# EAGLE library part 61303025721 (library Eagle_BOARD-TO-BOARD_CONNECTORS (rev18b))
WR-PHD 2.54mm Dual Socket Header Bottom Entry, 30 Pins =>Code : Con_BTB_SHD_2.54_2_61303025721 <http://katalog.we-online.de/media/images/eican/Con_BTB_SHD_2.54_2_6130xx25721_pf2.jpg> Details see: http://katalog.we-online.de/en/em/613_0xx_257_21 Created 2014-05-30, Karrer Zheng 2014 (C) Würth Elektronik
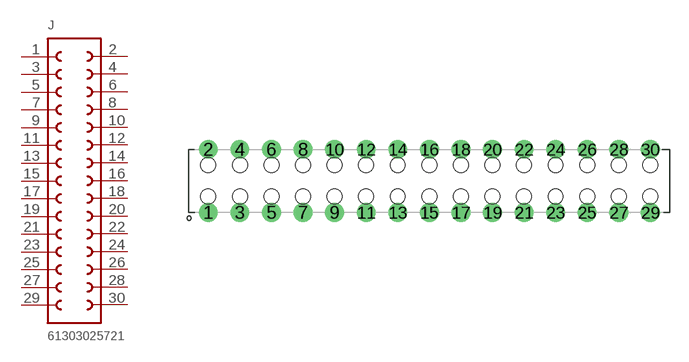
[diagram p160: symbol with the pads of 61303025721; footprint 61303025721]

Designator prefix J

## 61303025721  [61303025721]
1  1  pas
2  30  pas
3  2  pas
4  29  pas
5  3  pas
6  28  pas
7  4  pas
8  27  pas
9  5  pas
10  26  pas
11  6  pas
12  25  pas
13  7  pas
14  24  pas
15  8  pas
16  23  pas
17  9  pas
18  22  pas
19  10  pas
20  21  pas
21  11  pas
22  20  pas
23  12  pas
24  19  pas
25  13  pas
26  18  pas
27  14  pas
28  17  pas
29  15  pas
30  16  pas

## Footprint 61303025721 (pad centres in mm)
WR-PHD 2.54mm Dual Socket Header Bottom Entry, 30 Pins
drill 1 pad 1.4: 1 -17.78,-2.54; 2 -17.78,2.54; 3 -15.24,-2.54; 4 -15.24,2.54; 5 -12.7,-2.54; 6 -12.7,2.54; 7 -10.16,-2.54; 8 -10.16,2.54; 9 -7.62,-2.54; 10 -7.62,2.54; 11 -5.08,-2.54; 12 -5.08,2.54; 13 -2.54,-2.54; 14 -2.54,2.54; 15 0,-2.54; 16 0,2.54; 17 2.54,-2.54; 18 2.54,2.54; 19 5.08,-2.54; 20 5.08,2.54; 21 7.62,-2.54; 22 7.62,2.54; 23 10.16,-2.54; 24 10.16,2.54; 25 12.7,-2.54; 26 12.7,2.54; 27 15.24,-2.54; 28 15.24,2.54; 29 17.78,-2.54; 30 17.78,2.54
hole 1.2 at -17.78,1.27
hole 1.2 at -15.24,1.27
hole 1.2 at -15.24,-1.27
hole 1.2 at -17.78,-1.27
hole 1.2 at -12.7,-1.27
hole 1.2 at -12.7,1.27
hole 1.2 at -10.16,1.27
hole 1.2 at -10.16,-1.27
hole 1.2 at -7.62,1.27
hole 1.2 at -7.62,-1.27
hole 1.2 at -5.08,-1.27
hole 1.2 at -5.08,1.27
hole 1.2 at -2.54,1.27
hole 1.2 at -2.54,-1.27
hole 1.2 at 0,-1.27
hole 1.2 at 0,1.27
hole 1.2 at 2.54,-1.27
hole 1.2 at 2.54,1.27
hole 1.2 at 5.08,1.27
hole 1.2 at 5.08,-1.27
hole 1.2 at 7.62,-1.27
hole 1.2 at 7.62,1.27
hole 1.2 at 10.16,-1.27
hole 1.2 at 10.16,1.27
hole 1.2 at 12.7,-1.27
hole 1.2 at 12.7,1.27
hole 1.2 at 15.24,-1.27
hole 1.2 at 15.24,1.27
hole 1.2 at 17.78,1.27
hole 1.2 at 17.78,-1.27